# Altium schematic symbol library bluebox-micro-1B.SCHLIB: 17 symbols
Pins are listed as number, name and electrical type; pins without a type are passive.

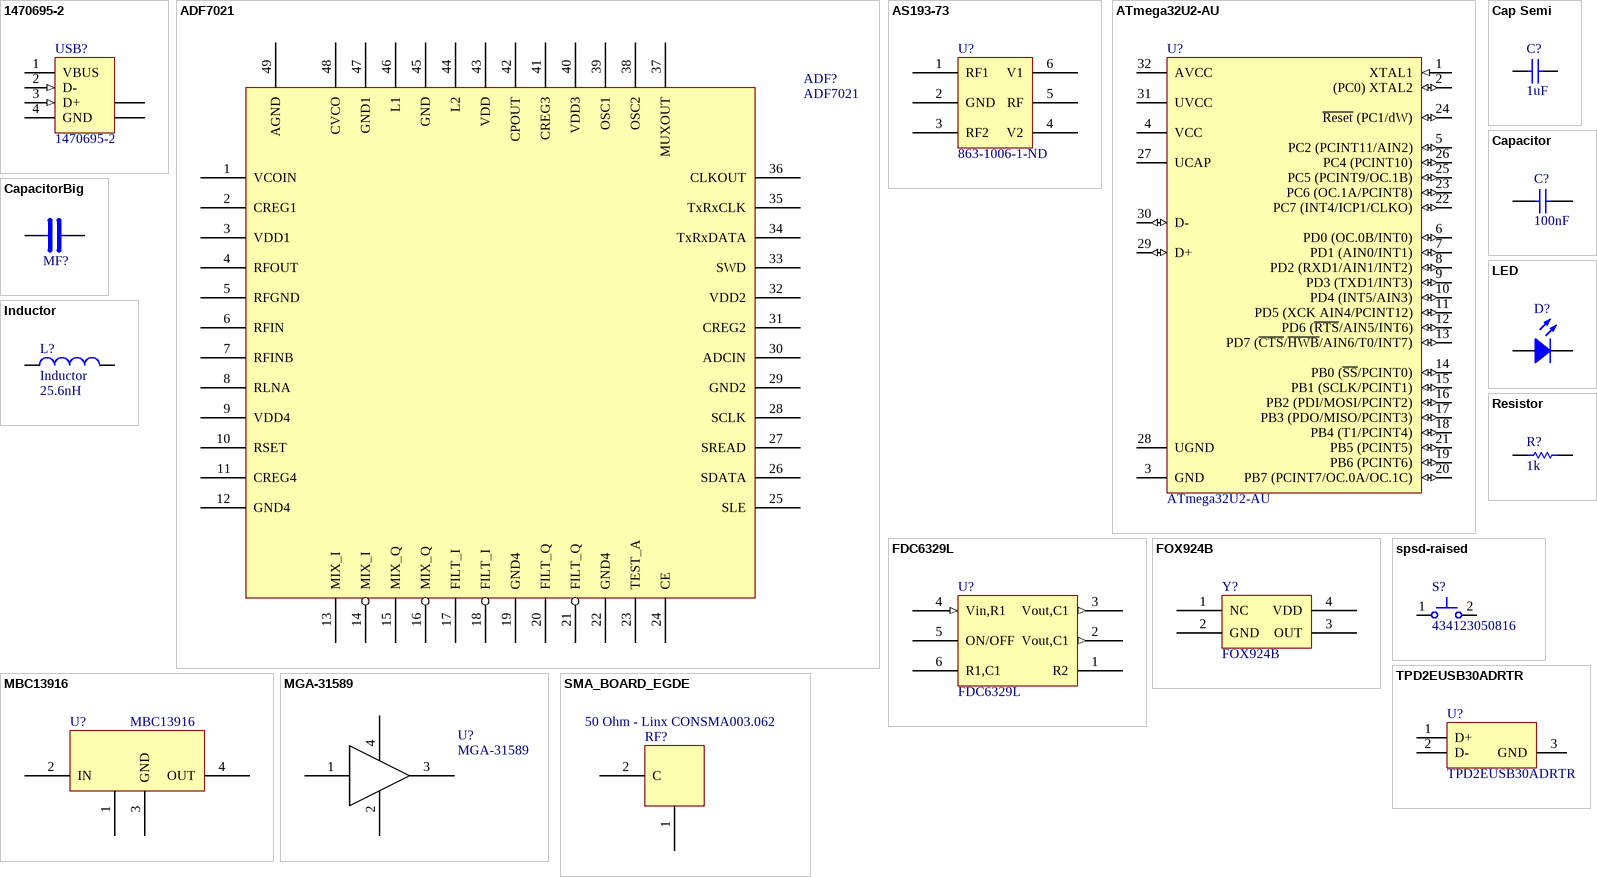
[diagram p0: symbols 1470695-2 to TPD2EUSB30ADRTR]

## 1470695-2
designator USB?
USB 1.1, Right Angle, SMT, A Type, Plug, 4 Position, Natural; ContactMaterial: Brass; ContactPlating: Gold (30) over Nickel (50); PCB_Layout: Complies with manufacturer's recommendation.; DrillSize: Corresponds to nominal value.; PanelGround: Without; Published: 15-Jul-2004; DatasheetDocument: 21-Jan-2003; PackageDocument: 21-Jan-2003; PackageReference: 1470695A; Publisher: Altium Limited; HousingMaterial: Thermoplastic; ComponentLink1Description: Manufacturer Link; ComponentLink1URL: http://www.tycoelectronics.com/; ComponentLink2Description: Packaging Specification; ComponentLink2URL: http://ecommas.tycoelectronics.com/commerce/DocumentDelivery/DDEController?Action=showdoc&DocId=Customer+Drawing%7F1470695%7FO%7Fpdf%7FEnglish%7FC_1470695_O.pdf
footprint 1470695A (Connector; USB1.1, Type A, SM; 4 Position; Right Angle)
signal-integrity model USB1.1
pins: 1 VBUS (power) "Power", 2 D- (in) "-DATA", 3 D+ (in) "+DATA", 4 GND (power) "Ground", 5 SHLD "Shield", 6 SHLD "Shield"

## ADF7021
designator ADF?
ADF7021 transceiver; By: Nikolaj Bisgaard Pedersen; Datasheet: http://www.analog.com/static/imported-files/data_sheets/ADF7021.pdf; Homepage: http://www.analog.com/en/rfif-components/short-range-transceivers/adf7021/products/product.html; Supplier 1: Digi-Key; Supplier Part Number 1: ADF7021BCPZ-ND
footprint QFN50P700X700X100-48M (QFN, 48-Leads, Body 7,0x7,0mm (max), Pitch 0,50mm, IPC Low Density)
pins: 1 VCOIN, 2 CREG1, 3 VDD1, 4 RFOUT, 5 RFGND, 6 RFIN, 7 RFINB, 8 RLNA, 9 VDD4, 10 RSET, 11 CREG4, 12 GND4, 13 MIX_I, 14 MIX_I, 15 MIX_Q, 16 MIX_Q, 17 FILT_I, 18 FILT_I, 19 GND4, 20 FILT_Q, 21 FILT_Q, 22 GND4, 23 TEST_A, 24 CE, 25 SLE, 26 SDATA, 27 SREAD, 28 SCLK, 29 GND2, 30 ADCIN, 31 CREG2, 32 VDD2, 33 SWD, 34 TxRxDATA, 35 TxRxCLK, 36 CLKOUT, 37 MUXOUT, 38 OSC2, 39 OSC1, 40 VDD3, 41 CREG3, 42 CPOUT, 43 VDD, 44 L2, 45 GND, 46 L1, 47 GND1, 48 CVCO, 49 AGND

## AS193-73
designator U?  Supplier Part Number 1: 863-1006-1-ND  (hidden comment: AS193-73)
PHEMT GaAs IC High-Linearity 3 V  Control SPDT Switch 0.1–2.5 GHz; By: HP; Datasheet: http://www.skyworksinc.com/uploads/documents/200186C.pdf; DigiKey: 863-1006-1-ND; Supplier 1: Digi-Key
footprint SOT95P275X150-6N (SOT23, 6-Leads, Body 3,0x3,2mm (max), Pitch 0,95mm, IPC Medium Density)
footprint SOT95P280X145-6N (SOT23, 6-Leads, Body 3,0x3,0mm (max), Pitch 0,95mm, IPC Medium Density)
pins: 1 RF1, 2 GND (power), 3 RF2, 4 V2, 5 RF, 6 V1

## ATmega32U2-AU
designator U?
8-bit AVR Microcontroller, 2.7-5.5V, 32KB Flash, 1KB EEPROM, 1KB SRAM, 32-pin TQFP, Industrial Grade (-40°C to 85°C); DatasheetVersion: revD, Nov-2010; PackageVersion: revC, Oct-2010; PackageReference: 32A; PackageDescription: 32-Lead, 7x7x1.0 mm Body, 0.8mm Lead Pitch, Thin Profile Plastic Quad Flat Package (TQFP); Code_JEDEC: MS-026-ABA; ComponentLink1Description: Manufacturer URL; ComponentLink1URL: http://www.atmel.com/; ComponentLink2Description: ATmega8U2/16U2/32U2 Datasheet; ComponentLink2URL: http://www.atmel.com/dyn/resources/prod_documents/doc7799.pdf; ComponentLink3Description: ATmega8U2/16U2/32U2 Summary; ComponentLink3URL: http://www.atmel.com/dyn/resources/prod_documents/7799S.pdf
footprint 32A_N (Thin QFP, 32-Leads, Body 7x7mm, Pitch 0.8mm, IPC Medium Density)
footprint 32A_L (Thin QFP, 32-Leads, Body 7x7mm, Pitch 0.8mm, IPC High Density)
footprint 32A_M (Thin QFP, 32-Leads, Body 7x7mm, Pitch 0.8mm, IPC Low Density)
pins: 1 XTAL1 (in), 2 (PC0) XTAL2 (io), 3 GND (power), 4 VCC (power), 5 PC2 (PCINT11/AIN2) (io), 6 PD0 (OC.0B/INT0) (io), 7 PD1 (AIN0/INT1) (io), 8 PD2 (RXD1/AIN1/INT2) (io), 9 PD3 (TXD1/INT3) (io), 10 PD4 (INT5/AIN3) (io), 11 PD5 (XCK AIN4/PCINT12) (io), 12 PD6 (~{RTS}/AIN5/INT6) (io), 13 PD7 (~{CTS}/~{HWB}/AIN6/T0/INT7) (io), 14 PB0 (~{SS}/PCINT0) (io), 15 PB1 (SCLK/PCINT1) (io), 16 PB2 (PDI/MOSI/PCINT2) (io), 17 PB3 (PDO/MISO/PCINT3) (io), 18 PB4 (T1/PCINT4) (io), 19 PB6 (PCINT6) (io), 20 PB7 (PCINT7/OC.0A/OC.1C) (io), 21 PB5 (PCINT5) (io), 22 PC7 (INT4/ICP1/CLKO) (io), 23 PC6 (OC.1A/PCINT8) (io), 24 ~{Reset} (PC1/dW) (io), 25 PC5 (PCINT9/OC.1B) (io), 26 PC4 (PCINT10) (io), 27 UCAP (power), 28 UGND (power), 29 D+ (io), 30 D- (io), 31 UVCC (power), 32 AVCC (power)

## Cap Semi
designator C?  value 1uF  (hidden comment: Cap Semi)
Capacitor (Semiconductor SIM Model); Published: 8-Jun-2000; LatestRevisionDate: 29-May-2009; LatestRevisionNote: IPC-7351 Footprint Added.; PackageReference: C1206; Publisher: Altium Limited; PackageDescription: Chip Capacitor
footprint CAPC3216L (Chip Capacitor, Body 3.2x1.6mm, IPC High Density)
footprint CAPC1005L (Chip Capacitor, Body 1.0x0.5mm, IPC High Density)
footprint CAPC2512L (Chip Capacitor, Body 2.54x1.27mm, IPC High Density)
footprint CAPC1608L (Chip Capacitor, Body 1.6x0.8mm, IPC High Density)
footprint CAPC3225L (Chip Capacitor, Body 3.2x2.5mm, IPC High Density)
simulation model CAP (Semiconductor Capacitor)
signal-integrity model Cap Semi
footprint C06 (Chip Capacitor, 2-Leads, Body 1.6x0.8mm, IPC Low Density)
pins: 1, 2

## Capacitor
designator C?  value 100nF  (hidden comment: Capacitor)
Capacitor, standard
footprint C06 (Chip Capacitor, 2-Leads, Body 1.6x0.8mm, IPC Low Density)
footprint C08 (Chip Capacitor, 2-Leads, Body 2.0x1.3mm, IPC Low Density)
footprint C12 (Chip Capacitor, 2-Leads, Body 3.2x1.6mm, IPC Low Density)
footprint C1210 (Chip Capacitor, 2-Leads, Body 3.2x2.5mm, IPC Low Density)
signal-integrity model Capacitor (Capacitor, standard)
pins: 1, 2

## CapacitorBig
designator MF?  (value not drawn)
Capacitor for PRU etc.; By: Troels Jessen; Username: tjessen; Datasheet: http://search.murata.co.jp/Ceramy/image/img/w_hinm/L0005E.pdf; DigiKey: 490-5314-1-ND
footprint C1210 (Chip Capacitor, 2-Leads, Body 3.2x2.5mm, IPC Low Density)
footprint Cap1812-large (Chip Resistor; Body 1812)
pins: 1, 2

## FDC6329L
designator U?
Integrated Load Switch; Datasheet: http://www.fairchildsemi.com/ds/FD%2FFDC6324L.pdf; Publisher: Nikolaj Pedersen 08gr414; Published: 10. april 2008; DigiKey: FDC6329LCT-ND
footprint SSOT-6
pins: 1 R2, 2 Vout,C1 (out), 3 Vout,C1 (out), 4 Vin,R1 (in), 5 ON/OFF, 6 R1,C1

## FOX924B
designator Y?
FOX924B TCXO 19.44 MHz; By: Nikolaj B. Pedersen; Username: Markem; Datasheet: http://www.foxonline.com/pdfs/fox924.pdf; Digikey: 631-1072-1-ND; Supplier 1: Digi-Key; Supplier 2: Farnell; Supplier Part Number 1: 631-1072-1-ND; Supplier Part Number 2: 2063960
footprint Fox924
pins: 1 NC, 2 GND, 3 OUT, 4 VDD

## Inductor
designator L?  value 25.6nH
Published: 07-04-2008; LatestRevisionNote: Aalborg University; PackageReference: 0402-A; Publisher: <HP>; Digikey: 495-2017-1-ND
footprint B82464-G4 (SMT Power Inductors B82464-G4)
footprint C06 (Chip Capacitor, 2-Leads, Body 1.6x0.8mm, IPC Low Density)
pins: 1, 2

## LED
designator D?  (value not drawn)
Typical RED GaAs LED; Published: 8-Jun-2000; LatestRevisionDate: 08-Jul-2005; LatestRevisionNote: Mech Layer 1 removed.; PackageReference: LED-1; Publisher: Altium Limited
simulation model LED1 (Diode)
footprint L06 (Chip LED, 2-Leads, Body 1.6x0.8mm, IPC Low Density)
footprint LED-1 (Typical RED GaAs LED; 2 Leads)
pins: 1 A, 2 K

## MBC13916
designator U?
footprint MBC13916 (SOT-143; 4 Leads; FOR LNA)
pins: 1 GND, 2 IN, 3 GND, 4 OUT

## MGA-31589
designator U?
0.5 W High Gain Driver Amplifier
footprint SOT-223B-small (used for PA in bluebox micro)
pins: 1 RF_IN, 2 GND, 3 RF_OUT "Also bias", 4 GND

## Resistor
designator R?  value 1k  (hidden comment: Resistor)
By: Troels Jessen; Username: tjessen
simulation model RESISTOR (Resistor)
signal-integrity model Res
footprint R06 (Chip Resistor, 2-Leads, Body 1.6x0.8mm, IPC Low Density)
footprint CR3216-1206 (Chip Resistor; Body 3.2 x 1.6 mm (LxW typ))
pins: 1, 2

## SMA_BOARD_EGDE
designator RF?, comment 50 Ohm - Linx CONSMA003.062
Linx CONSMA003.062  -  SMA Female Edge Mount for 1.6 mm PCB
footprint sma-egde (Footprint not found)
pins: 1 GND, 2 C

## spsd-raised
designator S?, comment 434123050816
Switch, Subminiature SMT, WURTH ELEKTRONIK - 434123050816 - SWITCH, 160GF, 6X3.5X5MM, BLK, J-BEND; ComponentLink1Description: Manufacturer Link
footprint spsd-raised (Footprint not found)
pins: 1, 2

## TPD2EUSB30ADRTR
designator U?
ESD / Surge Solution for High Speed, Low Voltage Interface, 2 Channels, -40 to +85 degC, 3-pin SOT (DRT), Green (RoHS & no Sb/Br); Manufacturer: Texas Instruments; 1394 / Firewire: TRUE; Breakdown Voltage(Min)(V): 4.5; Differential Capacitance(pF): 0.05; IEC 61000-4-2 Air-Gap(+/- kV): 8; IO Capacitance(Typ)(pF): 0.7; IO Leakage Current(nA): 10; SubFamily: ESD Solution; DatasheetVersion: SLVSAC2C; PackageVersion: revD, Jun-2008; PackageReference: DRT3; PackageDescription: 3-Flat Lead Plastic Small Outline, 1 x 1 mm (inc leads), 0.35 mm Pitch; Supplier 1: Digi-Key; Supplier Part Number 1: 296-28153-2-ND; Supplier 2: Digi-Key; Supplier Part Number 2: 296-28153-1-ND; Supplier 3: Digi-Key; Supplier Part Number 3: 296-28153-6-ND; Supplier 4: Farnell; Supplier Part Number 4: 1869645; Supplier 5: Newark; Supplier Part Number 5: 27T6835; Supplier 6: Mouser; Supplier Part Number 6: 595-TPD2EUSB30ADRTR; Eco-Plan: Green (RoHS & no Sb/Br); HDMI: TRUE; IEC 61000-4-2 Contact(+/- kV): 8; Serial ATA / eSATA: TRUE; USB Full Speed: TRUE; USB High Speed: TRUE; USB Super Speed: TRUE; Mounting Technology: Surface Mount; PartNumber: TPD2EUSB30ADRTR; ComponentLink1Description: Datasheet; ComponentLink1URL: http://www.ti.com/general/docs/lit/getliterature.tsp?genericPartNumber=TPD2EUSB30A&fileType=pdf; ComponentLink2Description: URL Link1; ComponentLink2URL: SamplesURL:http://www.ti.com/product/tpd2eusb30a#samples
footprint DRT3 (SOTFL, 3-Leads, Body 1x1mm (inc leads), Pitch 0.35mm)
pins: 1 D+ "High-speed ESD clamp, provides ESD protection to the high-speed differential data line", 2 D- "High-speed ESD clamp, provides ESD protection to the high-speed differential data line", 3 GND (power) "Ground"